# Altium footprint library uln2003a.PcbLib: 2 footprints
Each footprint in its own frame and in the unit in brackets; x right, y up, seen from the top. Pads: shape width x height; smd on the part's side, far side on the other; paste and mask are expansions set on the pad; w line width, h text height; cw(c..) or ccw(c..) is an arc to the next point about the centre after c.
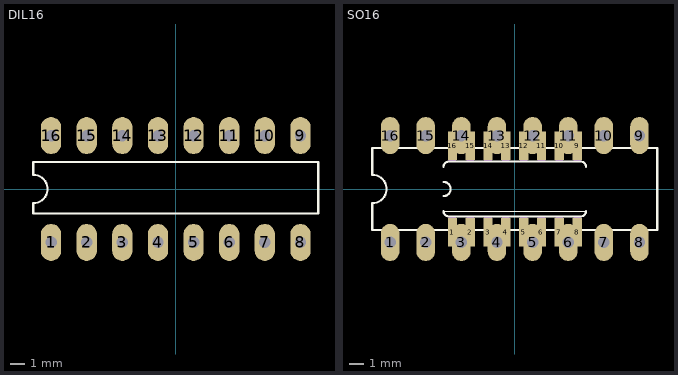
[diagram p0: the footprints below, top view; thin cyan lines are the x and y axes]

## DIL16 [mil]
pads (16):
  oval 57x104 hole 32: 1(-350,-150) 2(-250,-150) 3(-150,-150) 4(-50,-150) 5(50,-150) 6(150,-150) 7(250,-150) 8(350,-150) 9(350,150) 10(250,150) 11(150,150) 12(50,150) 13(-50,150) 14(-150,150) 15(-250,150) 16(-350,150)
Top Overlay:
  lines w6: -400,-68.9 400,-68.9 400,75.79 -400,75.79 -400,40 cw(c-400,0) -400,-40 -400,-68.9
3D body "User Library-DIP 16 _ socket 214.STEP": height 317.48, standoff -113.06, extent -400,-209.05 403.4,204.34

## SO16 [mil]
pads (32):
  oval 52x104 hole 32: 1(-350,-150) 2(-250,-150) 3(-150,-150) 4(-50,-150) 5(50,-150) 6(150,-150) 7(250,-150) 8(350,-150) 9(350,150) 10(250,150) 11(150,150) 12(50,150) 13(-50,150) 14(-150,150) 15(-250,150) 16(-350,150)
  rect 26x80 smd: 1(-175,-121) 2(-125,-121) 3(-75,-121) 4(-25,-121) 5(25,-121) 6(75,-121) 7(125,-121) 8(175,-121) 9(175,121) 10(125,121) 11(75,121) 12(25,121) 13(-25,121) 14(-75,121) 15(-125,121) 16(-175,121)
Top Overlay:
  lines w2: -200,-63 200,-63
  lines w6: -200,-62 ccw(c-185,-62) -185,-77 185,-77 ccw(c185,-62) 200,-62 ; -200,-20 ccw(c-200,0) -200,20 ; -200,62 cw(c-185,62) -185,77 185,77 cw(c185,62) 200,62 ; -400,-115 400,-115 400,115 -400,115 -400,40 cw(c-400,0) -400,-40 -400,-115
Mechanical 13:
  region: -15,77 -35,77 -35,122 -15,122
  region: -165,-122.18 -185.27,-122.18 -185.27,-77 -165,-77
  region: -115,-122.16 -135.18,-122.16 -135.18,-77 -115,-77
  region: -65,-121.11 -85.07,-121.11 -85.07,-76 -65,-76
  region: -15,-122.14 -35.04,-122.14 -35.04,-77 -15,-77
  region: -65,77.09 -85.1,77.09 -85.1,122 -65,122
  region: -115,77.03 -135.05,77.03 -135.05,122 -115,122
  region: -165,77.01 -185.02,77.01 -185.02,122 -165,122
  region: 35,-122.06 15.01,-122.06 15.01,-77 35,-77
  region: 85,-122.16 65.08,-122.16 65.08,-77 85,-77
  region: 135,-122.14 115.13,-122.14 115.13,-77 135,-77
  region: 185,-122.08 165.11,-122.08 165.11,-77 185,-77
  region: 35,77.14 15.03,77.14 15.03,122 35,122
  region: 85,77.12 65.1,77.12 65.1,122 85,122
  region: 135,77.02 115.02,77.02 115.02,122 135,122
  region: 185,77.02 165.05,77.02 165.05,122 185,122